# EAGLE library part AQM0802A (library FaBo-Parts)
I2C LCD 8x2 I2C LCD 3.3V akizuki http://akizukidenshi.com/catalog/g/gP-06669/
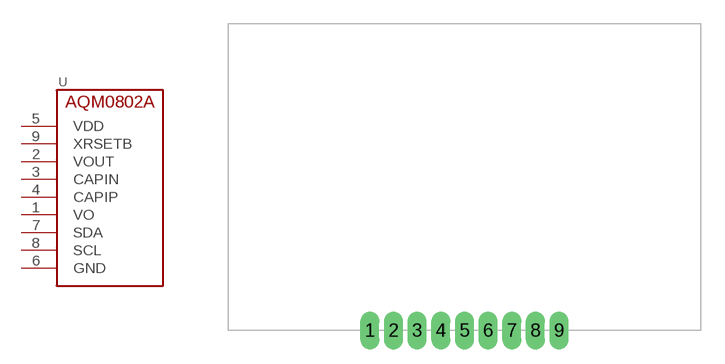
[diagram p2: symbol with the pads of AQM0802A; footprint AQM0802A]

Designator prefix U

## AQM0802A  [AQM0802A]
1  VO
2  VOUT
3  CAPIN
4  CAPIP
5  VDD
6  GND
7  SDA
8  SCL
9  XRSETB

## Footprint AQM0802A (pad centres in mm)
drill 0.7 pad 1.143 long: 1 -6,0; 2 -4.5,0; 3 -3,0; 4 -1.5,0; 5 0,0; 6 1.5,0; 7 3,0; 8 4.5,0; 9 6,0